# Altium schematic symbol library RELAY_TQ.SchLib: 1 symbol
Pins are listed as number, name and electrical type; pins without a type are passive.

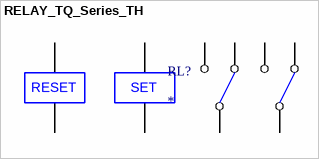
[diagram p0: symbol RELAY_TQ_Series_TH]

## RELAY_TQ_Series_TH
designator RL?
pins: 1 S1, 2 NC1, 3 C1, 4 NA1, 5 S2, 6 R2, 7 NA2, 8 C2, 9 NC2, 10 R1
text: RESET; SET